# Altium schematic symbol library Hole.SchLib: 1 symbol
Pins are listed as number, name and electrical type; pins without a type are passive.

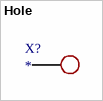
[diagram p0: symbol Hole]

## Hole
designator X?
footprint Round_1x0.5
footprint Round_1.5x0.8
footprint Round_2x1
footprint Round_2x1.2
footprint Round_2x1.5
footprint Round_3x1
footprint Round_3x1.2
footprint Round_3x1.5
footprint Round_4x2
pins: 1